# EAGLE library part B9B-XH (library con-JST_XH)
JST XH series header 2.50mm pitch disconnectable crimp style connectors, vertical (side entry type), 9 pins
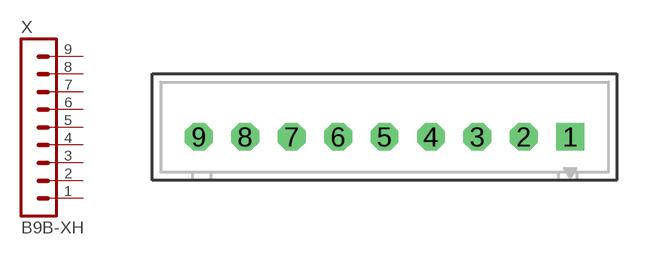
[diagram p3: symbol with the pads of B9B-XH-A; footprint B9B-XH-A]

Designator prefix X

## B9B-XH-A  [B9B-XH-A]
1  1  pas
2  2  pas
3  3  pas
4  4  pas
5  5  pas
6  6  pas
7  7  pas
8  8  pas
9  9  pas

## B9B-XH-2  [B9B-XH-A]
Pads as for B9B-XH-A

## Footprint B9B-XH-A (pad centres in mm)
JST XH series header 2.50mm pitch disconnectable crimp style connectors, vertical (top entry type), 9 pins
drill 0.9 pad 1.5 square: 1 10,0
drill 0.9 pad 1.5 octagon: 2 7.5,0; 3 5,0; 4 2.5,0; 5 0,0; 6 -2.5,0; 7 -5,0; 8 -7.5,0; 9 -10,0